# Altium integrated library Mechanical - Misc.IntLib: 2 symbols
Pins are listed as number, name and electrical type; pins without a type are passive.

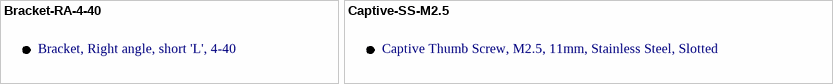
[diagram p0: symbols Bracket-RA-4-40 to Captive-SS-M2.5]

## Bracket-RA-4-40
designator ZM?, comment 621 keystone  (value not drawn)  (mechanical)
Bracket, Right angle, short 'L', 4-40; Manufacturer: Keystone Electronics; Part Number: 621; ComponentLink1Description: Datasheet; ComponentLink1URL: https://www.unicorpinc.com/metric_4000_series.htm; Supplier 1: Allied; Supplier Part Number 1: 70181673; Supplier 2: Mouser; Supplier Part Number 2: 534-621; Supplier 3: Digi-Key; Supplier Part Number 3: 36-621-ND

## Captive-SS-M2.5
designator ZS?, comment M4002-M07-F16  (value not drawn)  (mechanical)
Captive Thumb Screw, M2.5, 11mm, Stainless Steel, Slotted; Manufacturer: Unicorp; ComponentLink1Description: Datasheet; ComponentLink1URL: https://www.unicorpinc.com/metric_4000_series.htm; Part Number: M4002-M07-F16